# Altium footprint library Footprint.PcbLib: 1 footprints
Each footprint in its own frame and in the unit in brackets; x right, y up, seen from the top. Pads: shape width x height; smd on the part's side, far side on the other; paste and mask are expansions set on the pad; w line width, h text height; cw(c..) or ccw(c..) is an arc to the next point about the centre after c.
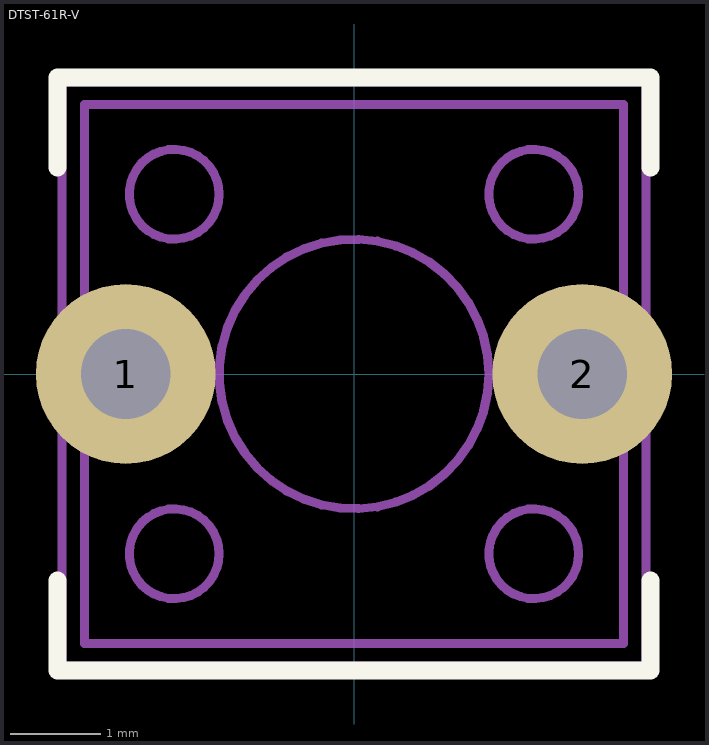
[diagram p0: the footprint, top view; thin cyan lines are the x and y axes]

## DTST-61R-V [mm] "Push button, 2-Leads, Body 6.00x6.00mm, IPC Medium Density"
height 4.3
pads (2):
  round 2 hole 1: 1(-2.54,0) 2(2.54,0)
Top Overlay:
  lines w0.2: -3.3,-2.3 -3.3,-3.3 3.3,-3.3 3.3,-2.3 ; -3.3,2.3 -3.3,3.3 3.3,3.3 3.3,2.3
Top Pattern:
  circle w0.1: c0,0 r1.5
  circle w0.1: c-2,2 r0.5
  circle w0.1: c2,2 r0.5
  circle w0.1: c-2,-2 r0.5
  circle w0.1: c2,-2 r0.5
  lines w0.1: -3,-3 3,-3 3,3 -3,3 -3,-3
  text ".Designator" at -3,3.5 h1.52
Courtyard:
  lines w0.1: -3.25,-3.25 3.25,-3.25 3.25,3.25 -3.25,3.25 -3.25,-3.25
3D body "DTST-61R-V.step": height 4.3, standoff -5, extent -3,-3 3,3